# Altium footprint library EthIO_Gateway.PcbLib: 3 footprints
Each footprint in its own frame and in the unit in brackets; x right, y up, seen from the top. Pads: shape width x height; smd on the part's side, far side on the other; paste and mask are expansions set on the pad; w line width, h text height; cw(c..) or ccw(c..) is an arc to the next point about the centre after c.
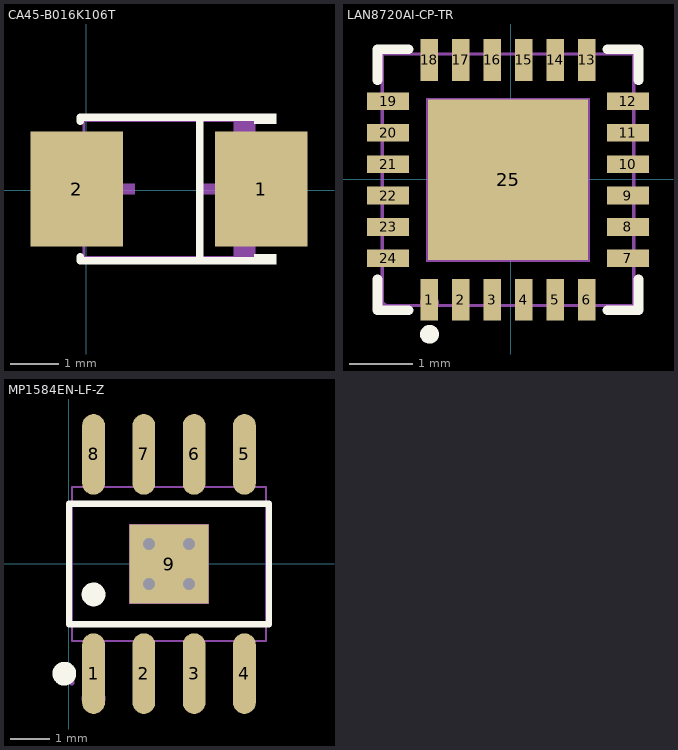
[diagram p0: the footprints below, top view; thin cyan lines are the x and y axes]

## CA45-B016K106T [mm]
pads (2):
  rect 1.9x2.376 smd: 1(3.604,0.028) 2(-0.193,0.028)
Top Overlay:
  region: 3.456,-1.524 3.456,-1.312 3.913,-1.312 3.913,-1.524
  region: 3.456,1.581 3.456,1.369 3.913,1.369 3.913,1.581
  lines w0.152: -0.121,-1.363 -0.121,-1.448 3.532,-1.448 ; -0.121,1.42 -0.121,1.505 3.532,1.505 ; 2.341,-1.448 2.341,1.505
Mechanical 2:
  region: 3.456,1.428 3.456,0.728 3.036,0.728 3.036,1.428
  region: 3.456,-1.372 3.456,-0.672 3.036,-0.672 3.036,-1.372
  region: 2.931,-0.672 2.931,0.728 2.721,0.728 2.721,-0.672
  region: 3.246,-0.077 3.246,0.133 2.406,0.133 2.406,-0.077
  region: 0.166,-0.077 0.166,0.133 1.006,0.133 1.006,-0.077
Mechanical 6:
  lines w0.051: -0.044,-1.372 3.456,-1.372 3.456,1.428 -0.044,1.428 -0.044,-1.372
Mechanical 8:
  region: 3.516,1.428 3.516,1.404 3.481,1.368 3.431,1.368 3.396,1.404 3.396,1.428 3.396,1.453 3.431,1.488 3.481,1.488 3.516,1.453
Mechanical 9:
  region: 3.456,-1.072 3.456,1.128 2.756,1.128 2.756,-1.072
  region: -0.044,-1.072 -0.044,1.128 0.656,1.128 0.656,-1.072
3D body "2.STEP": height 1.97, standoff -0.03, extent -0.199,-1.403 3.501,1.397

## LAN8720AI-CP-TR [mm]
pads (25):
  rect 0.28x0.665 smd paste-100 mask+0.05: 1(-1.296,-1.915) 2(-0.796,-1.915) 3(-0.296,-1.915) 4(0.204,-1.915) 5(0.704,-1.915) 6(1.204,-1.915) 13(1.204,1.9) 14(0.704,1.9) 15(0.204,1.9) 16(-0.296,1.9) 17(-0.796,1.9) 18(-1.296,1.9)
  rect 0.665x0.28 smd paste-100 mask+0.05: 7(1.862,-1.257) 8(1.862,-0.758) 9(1.862,-0.257) 10(1.862,0.242) 11(1.862,0.743) 12(1.862,1.242) 19(-1.954,1.242) 20(-1.954,0.743) 21(-1.954,0.242) 22(-1.954,-0.257) 23(-1.954,-0.758) 24(-1.954,-1.257)
  rect 2.55x2.55 smd paste-100 mask+0.05: 25(-0.046,-0.008)
Top Overlay:
  circle w0.15: c-1.296,-2.465 r0.075
  lines w0.152: -2.122,-1.588 -2.122,-2.084 -1.626,-2.084 ; -2.122,1.573 -2.122,2.069 -1.626,2.069 ; 1.535,-2.084 2.03,-2.084 2.03,-1.588 ; 1.535,2.069 2.03,2.069 2.03,1.573
Top Paste:
  region: -1.066,1.012 0.974,1.012 0.974,-1.028 -1.066,-1.028
  region: -1.436,-2.248 -1.436,-1.583 -1.156,-1.583 -1.156,-2.248
  region: -0.936,-2.248 -0.936,-1.583 -0.656,-1.583 -0.656,-2.248
  region: -0.436,-2.248 -0.436,-1.583 -0.156,-1.583 -0.156,-2.248
  region: 0.064,-2.248 0.064,-1.583 0.344,-1.583 0.344,-2.248
  region: 0.564,-2.248 0.564,-1.583 0.844,-1.583 0.844,-2.248
  region: 1.064,-2.248 1.064,-1.583 1.344,-1.583 1.344,-2.248
  region: 2.194,-1.398 2.194,-1.118 1.529,-1.118 1.529,-1.398
  region: 2.194,-0.898 2.194,-0.618 1.529,-0.618 1.529,-0.898
  region: 2.194,-0.398 2.194,-0.118 1.529,-0.118 1.529,-0.398
  region: 2.194,0.102 2.194,0.382 1.529,0.382 1.529,0.102
  region: 2.194,0.602 2.194,0.882 1.529,0.882 1.529,0.602
  region: 2.194,1.102 2.194,1.382 1.529,1.382 1.529,1.102
  region: 1.064,2.232 1.064,1.567 1.344,1.567 1.344,2.232
  region: 0.564,2.232 0.564,1.567 0.844,1.567 0.844,2.232
  region: 0.064,2.232 0.064,1.567 0.344,1.567 0.344,2.232
  region: -0.436,2.232 -0.436,1.567 -0.156,1.567 -0.156,2.232
  region: -0.936,2.232 -0.936,1.567 -0.656,1.567 -0.656,2.232
  region: -1.436,2.232 -1.436,1.567 -1.156,1.567 -1.156,2.232
  region: -1.621,1.102 -1.621,1.382 -2.286,1.382 -2.286,1.102
  region: -1.621,0.602 -1.621,0.882 -2.286,0.882 -2.286,0.602
  region: -1.621,0.102 -1.621,0.382 -2.286,0.382 -2.286,0.102
  region: -1.621,-0.398 -1.621,-0.118 -2.286,-0.118 -2.286,-0.398
  region: -1.621,-0.898 -1.621,-0.618 -2.286,-0.618 -2.286,-0.898
  region: -1.621,-1.398 -1.621,-1.118 -2.286,-1.118 -2.286,-1.398
Mechanical 2:
  circle w0.15: c-1.296,-1.965 r0.075
Mechanical 6:
  lines w0.051: -2.046,-2.008 1.954,-2.008 1.954,1.992 -2.046,1.992 -2.046,-2.008
Mechanical 8:
  region: -1.986,-2.008 -1.986,-2.032 -2.021,-2.068 -2.071,-2.068 -2.106,-2.032 -2.106,-2.008 -2.106,-1.983 -2.071,-1.948 -2.021,-1.948 -1.986,-1.983 -1.986,-2.008
Mechanical 9:
  region: -1.346,1.292 1.254,1.292 1.254,-1.308 -1.346,-1.308
  region: -1.646,-1.378 -1.646,-1.138 -2.046,-1.138 -2.046,-1.378
  region: -1.646,-0.878 -1.646,-0.638 -2.046,-0.638 -2.046,-0.878
  region: -1.646,-0.378 -1.646,-0.138 -2.046,-0.138 -2.046,-0.378
  region: -1.646,0.122 -1.646,0.362 -2.046,0.362 -2.046,0.122
  region: -1.646,0.622 -1.646,0.862 -2.046,0.862 -2.046,0.622
  region: -1.646,1.122 -1.646,1.362 -2.046,1.362 -2.046,1.122
  region: -1.416,1.992 -1.416,1.592 -1.176,1.592 -1.176,1.992
  region: -0.916,1.992 -0.916,1.592 -0.676,1.592 -0.676,1.992
  region: -0.416,1.992 -0.416,1.592 -0.176,1.592 -0.176,1.992
  region: 0.084,1.992 0.084,1.592 0.324,1.592 0.324,1.992
  region: 0.584,1.992 0.584,1.592 0.824,1.592 0.824,1.992
  region: 1.084,1.992 1.084,1.592 1.324,1.592 1.324,1.992
  region: 1.554,1.122 1.554,1.362 1.954,1.362 1.954,1.122
  region: 1.554,0.622 1.554,0.862 1.954,0.862 1.954,0.622
  region: 1.554,0.122 1.554,0.362 1.954,0.362 1.954,0.122
  region: 1.554,-0.378 1.554,-0.138 1.954,-0.138 1.954,-0.378
  region: 1.554,-0.878 1.554,-0.638 1.954,-0.638 1.954,-0.878
  region: 1.554,-1.378 1.554,-1.138 1.954,-1.138 1.954,-1.378
  region: 1.084,-2.008 1.084,-1.608 1.324,-1.608 1.324,-2.008
  region: 0.584,-2.008 0.584,-1.608 0.824,-1.608 0.824,-2.008
  region: 0.084,-2.008 0.084,-1.608 0.324,-1.608 0.324,-2.008
  region: -0.416,-2.008 -0.416,-1.608 -0.176,-1.608 -0.176,-2.008
  region: -0.916,-2.008 -0.916,-1.608 -0.676,-1.608 -0.676,-2.008
  region: -1.416,-2.008 -1.416,-1.608 -1.176,-1.608 -1.176,-2.008
3D body "2.STEP": height 0.86, standoff -0.05, extent -2.095,-2 1.905,2

## MP1584EN-LF-Z [mm]
pads (9):
  oval 0.574x2.038 smd: 1(0.627,-2.777) 2(1.897,-2.777) 3(3.167,-2.777) 4(4.437,-2.777) 5(4.437,2.761) 6(3.167,2.761) 7(1.897,2.761) 8(0.627,2.761)
  rect 2x2 smd: 9(2.532,-0.008)
via 2.032,-0.508 diameter 0.61 hole 0.305
via 3.032,-0.508 diameter 0.61 hole 0.305
via 2.032,0.492 diameter 0.61 hole 0.305
via 3.032,0.492 diameter 0.61 hole 0.305
Top Overlay:
  circle w0.3: c-0.113,-2.777 r0.15
  circle w0.3: c0.627,-0.777 r0.15
  lines w0.152: 0.006,-1.529 5.058,-1.529 5.058,1.514 0.006,1.514 0.006,-1.529
Mechanical 2:
  circle w0.3: c0.627,-3.408 r0.15
Mechanical 6:
  lines w0.051: 0.082,-1.958 4.982,-1.958 4.982,1.942 0.082,1.942 0.082,-1.958
Mechanical 7:
  region: 4.232,2.167 4.232,1.932 4.642,1.932 4.642,2.167
  region: 2.962,2.167 2.962,1.932 3.372,1.932 3.372,2.167
  region: 1.692,2.167 1.692,1.932 2.102,1.932 2.102,2.167
  region: 0.422,2.167 0.422,1.932 0.832,1.932 0.832,2.167
  region: 4.232,-2.183 4.232,-1.948 4.642,-1.948 4.642,-2.183
  region: 2.962,-2.183 2.962,-1.948 3.372,-1.948 3.372,-2.183
  region: 1.692,-2.183 1.692,-1.948 2.102,-1.948 2.102,-2.183
  region: 0.422,-2.183 0.422,-1.948 0.832,-1.948 0.832,-2.183
Mechanical 8:
  region: 0.142,-3.008 0.142,-3.033 0.107,-3.068 0.057,-3.068 0.022,-3.033 0.022,-3.008 0.022,-2.983 0.057,-2.948 0.107,-2.948 0.142,-2.983
Mechanical 9:
  region: 1.532,-1.008 1.532,0.992 3.532,0.992 3.532,-1.008
  region: 4.232,2.992 4.232,2.157 4.642,2.157 4.642,2.992
  region: 2.962,2.992 2.962,2.157 3.372,2.157 3.372,2.992
  region: 1.692,2.992 1.692,2.157 2.102,2.157 2.102,2.992
  region: 0.422,2.992 0.422,2.157 0.832,2.157 0.832,2.992
  region: 4.232,-3.008 4.232,-2.173 4.642,-2.173 4.642,-3.008
  region: 2.962,-3.008 2.962,-2.173 3.372,-2.173 3.372,-3.008
  region: 1.692,-3.008 1.692,-2.173 2.102,-2.173 2.102,-3.008
  region: 0.422,-3.008 0.422,-2.173 0.832,-2.173 0.832,-3.008
3D body "2.STEP": height 1.67, standoff -0.03, extent 0.053,-3 4.953,3